# EAGLE library part HDPS-7513 (library 0MatranLED)
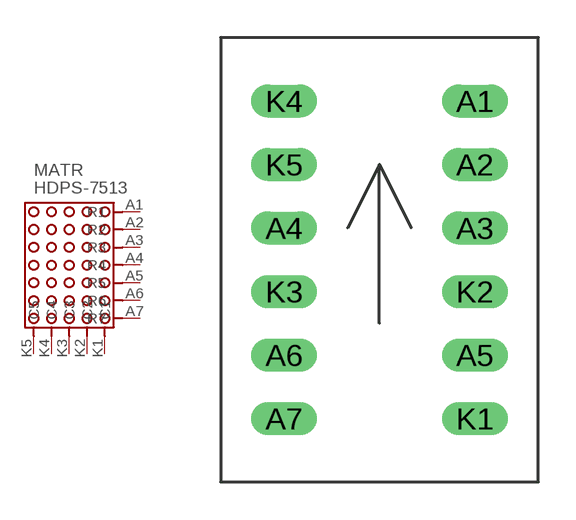
[diagram p0: symbol with the pads of MA5X7; footprint MA5X7]

Designator prefix MATR

## HDPS-7513TL  [MA5X7]
A1  R1
A2  R2
A3  R3
A4  R4
A5  R5
A6  R6
A7  R7
K1  C1
K2  C2
K3  C3
K4  C4
K5  C5

## Footprint MA5X7 (pad centres in mm)
drill 0.813 long: A1 3.81,6.35; A2 3.81,3.81; A3 3.81,1.27; A4 -3.81,1.27; A5 3.81,-3.81; A6 -3.81,-3.81; A7 -3.81,-6.35; K1 3.81,-6.35; K2 3.81,-1.27; K3 -3.81,-1.27; K4 -3.81,6.35; K5 -3.81,3.81